# Altium footprint library PcbLib1.PcbLib: 35 footprints (part 2 of 3)
Each footprint in its own frame and in the unit in brackets; x right, y up, seen from the top. Pads: shape width x height; smd on the part's side, far side on the other; paste and mask are expansions set on the pad; w line width, h text height; cw(c..) or ccw(c..) is an arc to the next point about the centre after c.
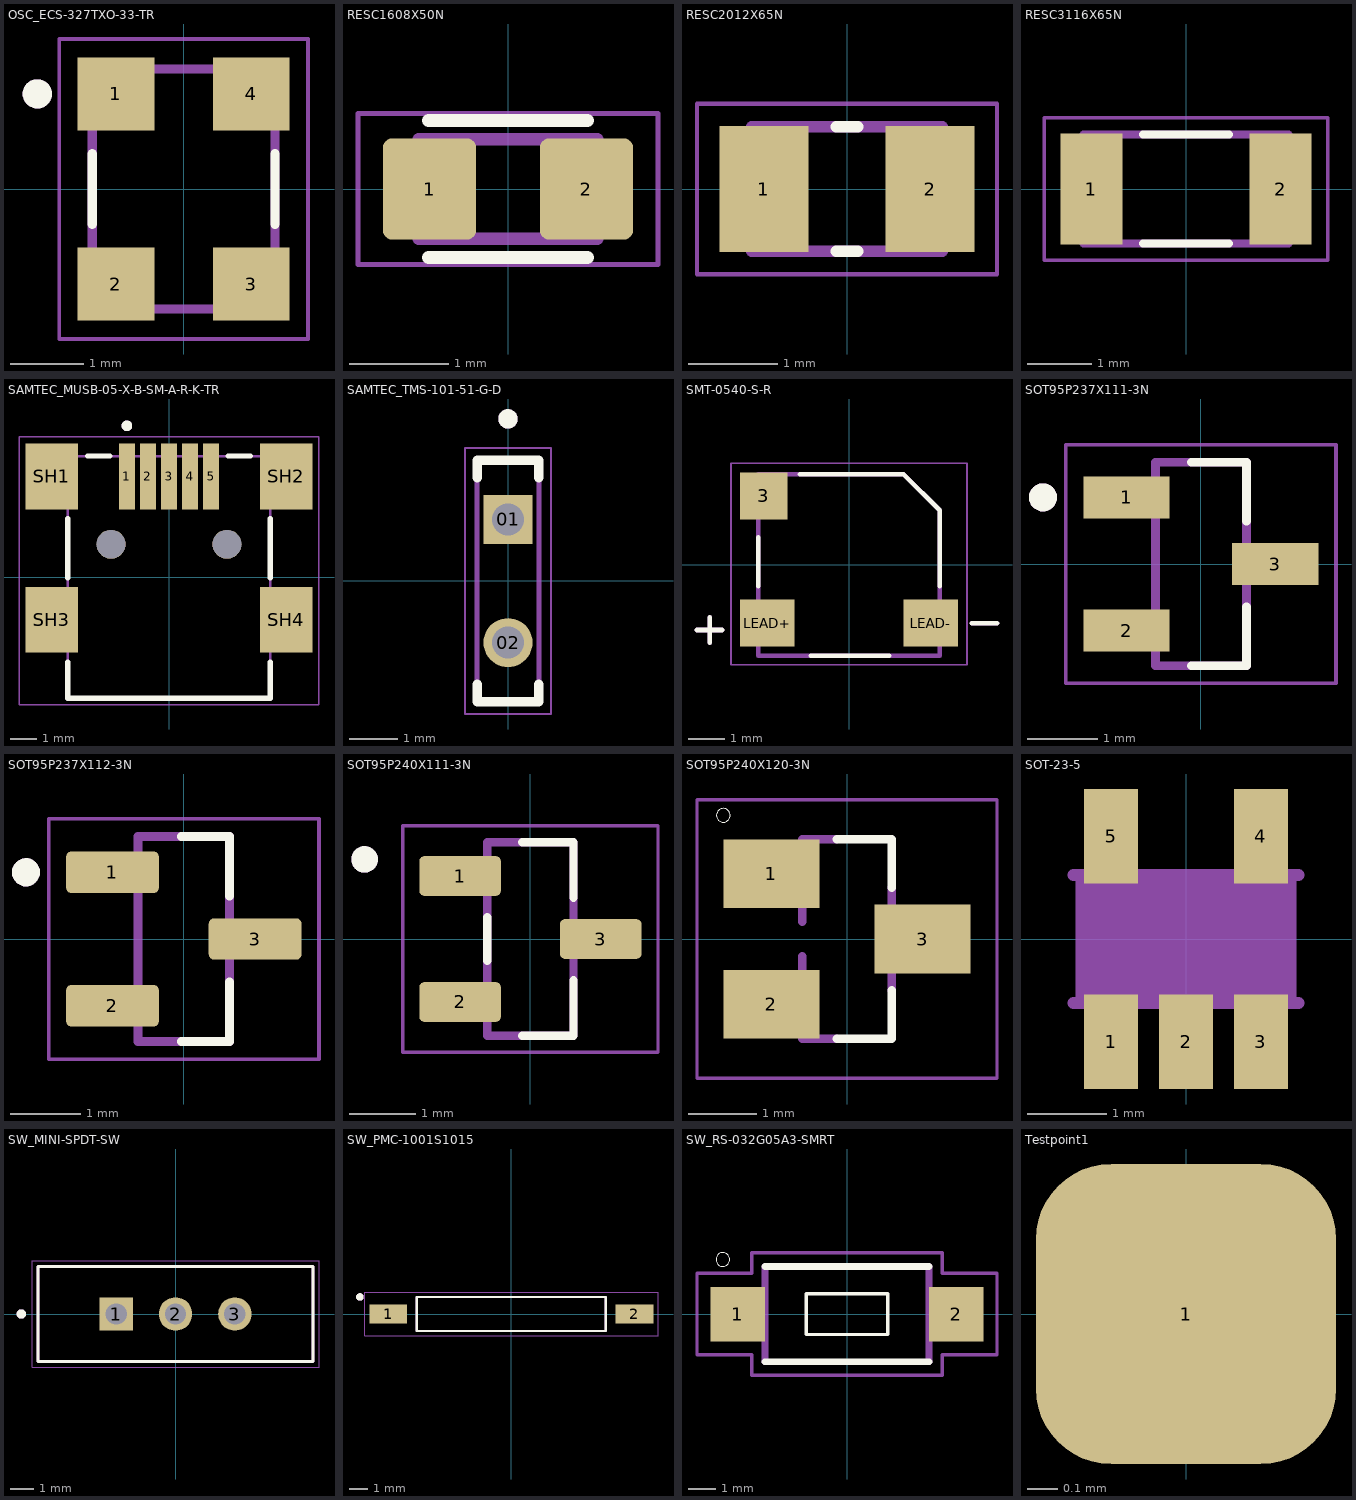
[diagram p1: the footprints below, top view; thin cyan lines are the x and y axes]

## OSC_ECS-327TXO-33-TR [mm]
height 1.4
pads (4):
  rect 1.05x1 smd: 1(-0.925,1.3) 2(-0.925,-1.3) 3(0.925,-1.3) 4(0.925,1.3)
Top Overlay:
  circle w0.2: c-2,1.3 r0.1
  lines w0.127: -1.25,-0.48 -1.25,0.48 ; 1.25,-0.48 1.25,0.48
Mechanical 13:
  circle w0.2: c-2,1.3 r0.1
  lines w0.127: -1.25,-1.64 -1.25,1.64 1.25,1.64 1.25,-1.64 -1.25,-1.64
Mechanical 15:
  lines w0.05: -1.7,-2.05 -1.7,2.05 1.7,2.05 1.7,-2.05 -1.7,-2.05
3D body "step_temp.STEP": height 1.4, standoff 0, extent -1.25,-1.64 1.25,1.64

## RESC1608X50N [mm]
pads (2):
  rrect20% 0.94x1.02 smd: 1(-0.79,0) 2(0.79,0)
Top Overlay:
  lines w0.127: -0.8,-0.69 0.8,-0.69 ; -0.8,0.69 0.8,0.69
Mechanical 13:
  lines w0.127: -0.9,-0.5 0.9,-0.5 0.9,0.5 -0.9,0.5 -0.9,-0.5
Mechanical 15:
  lines w0.05: -1.51,-0.76 1.51,-0.76 1.51,0.76 -1.51,0.76 -1.51,-0.76
3D body "4-2176243-5.stp": height 0.43, standoff -0.03, extent -0.8,-0.4 0.8,0.4

## RESC2012X65N [mm]
pads (2):
  rect 1x1.42 smd: 1(-0.935,0) 2(0.935,0)
Top Overlay:
  lines w0.127: -0.12,-0.7 0.12,-0.7 ; -0.12,0.7 0.12,0.7
Mechanical 13:
  lines w0.127: -1.07,-0.7 -1.07,0.7 1.07,0.7 1.07,-0.7 -1.07,-0.7
Mechanical 15:
  lines w0.05: -1.685,-0.96 -1.685,0.96 1.685,0.96 1.685,-0.96 -1.685,-0.96
3D body "RN73C2A499RBTG.STEP": height 0.63, standoff -0.02, extent -1,-0.625 1,0.625

## RESC3116X65N [mm]
pads (2):
  rect 0.97x1.73 smd: 1(-1.48,0) 2(1.48,0)
Top Overlay:
  lines w0.127: -0.67,-0.85 0.67,-0.85 ; -0.67,0.85 0.67,0.85
Mechanical 13:
  lines w0.127: -1.6,-0.85 -1.6,0.85 1.6,0.85 1.6,-0.85 -1.6,-0.85
Mechanical 15:
  lines w0.05: -2.215,-1.115 -2.215,1.115 2.215,1.115 2.215,-1.115 -2.215,-1.115
3D body "step_temp.STEP": height 0.65, standoff 0, extent -1.55,-0.8 1.55,0.8

## SAMTEC_MUSB-05-X-B-SM-A-R-K-TR [mm]
height 4.1
pads (11):
  rect 0.6x2.5 smd: 1(-1.6,3.83) 2(-0.8,3.83) 3(0,3.83) 4(0.8,3.83) 5(1.6,3.83)
  rect 2x2.5 smd: SH1(-4.45,3.83) SH2(4.45,3.83) SH3(-4.45,-1.62) SH4(4.45,-1.62)
  round 1.1 hole 1.1 unplated: ""(-2.2,1.25) ""(2.2,1.25)
Top Overlay:
  circle w0.2: c-1.6,5.75 r0.1
  lines w0.2: -3.85,-3.22 -3.85,-4.6 3.85,-4.6 3.85,-3.22 ; -3.85,-0.02 -3.85,2.23 ; -3.1,4.6 -2.25,4.6 ; 2.25,4.6 3.1,4.6 ; 3.85,-0.02 3.85,2.23
Mechanical 13:
  circle w0.2: c-1.6,5.75 r0.1
  lines w0.1: -3.85,-4.6 3.85,-4.6 3.85,4.6 -3.85,4.6 -3.85,-4.6
Mechanical 15:
  lines w0.05: -5.7,-4.85 5.7,-4.85 5.7,5.33 -5.7,5.33 -5.7,-4.85
3D body "step_temp.STEP": height 4.13, standoff -1, extent -5,-4.6 5,4.9

## SAMTEC_TMS-101-51-G-D [mm]
pads (2):
  rect 1.01x1.01 / inner round 1.01 / far side rect 1.01x1.01 hole 0.66: 01(0,1.27)
  round 1.01 hole 0.66: 02(0,-1.27)
Top Overlay:
  circle w0.2: c0,3.339 r0.1
  lines w0.2: -0.635,-2.125 -0.635,-2.489 0.635,-2.489 0.635,-2.125 ; -0.635,2.125 -0.635,2.489 0.635,2.489 0.635,2.125
Mechanical 13:
  circle w0.2: c0,3.339 r0.1
  lines w0.1: -0.635,-2.489 -0.635,2.489 0.635,2.489 0.635,-2.489 -0.635,-2.489
Mechanical 15:
  lines w0.05: -0.885,-2.739 0.885,-2.739 0.885,2.739 -0.885,2.739 -0.885,-2.739
3D body "TMS-101-51-G-D.stp": height 7.35, standoff -3.07, extent -0.635,-2.438 0.635,2.54

## SMT-0540-S-R [mm]
height 2.1
pads (3):
  rect 1.3x1.3 smd: 3(-2.35,1.9)
  rect 1.5x1.3 smd: LEAD+(-2.25,-1.6) LEAD-(2.25,-1.6)
Top Overlay:
  lines w0.127: -4.186,-1.791 -3.486,-1.791 ; -3.836,-2.141 -3.836,-1.441 ; -2.5,-0.585 -2.5,0.762 ; -1.35,2.5 1.5,2.5 2.5,1.5 2.5,-0.585 ; -1.057,-2.5 1.103,-2.5 ; 3.373,-1.602 4.073,-1.602
Mechanical 13:
  lines w0.127: -4.186,-1.791 -3.486,-1.791 ; -3.836,-2.141 -3.836,-1.441 ; 3.373,-1.602 4.073,-1.602 ; -2.5,-2.5 2.5,-2.5 2.5,1.5 1.5,2.5 -2.5,2.5 -2.5,-2.5
Mechanical 15:
  lines w0.05: -3.25,-2.75 -3.25,2.8 3.25,2.8 3.25,-2.75 -3.25,-2.75
3D body "SMT-0540-S-R--3DModel-STEP-461651.STEP": height 1.99, standoff -0.01, extent -2.68,-2.466 2.72,2.534

## SOT95P237X111-3N [mm]
height 1.11
pads (3):
  rect 1.23x0.6 smd: 1(-1.06,0.95) 2(-1.06,-0.95) 3(1.06,0)
Top Overlay:
  circle w0.2: c-2.25,0.95 r0.1
  lines w0.127: -0.132,-1.45 0.65,-1.45 0.65,-0.613 ; -0.132,1.45 0.65,1.45 0.65,0.613
Mechanical 13:
  circle w0.2: c-2.25,0.95 r0.1
  lines w0.127: -0.65,-1.45 -0.65,1.45 0.65,1.45 0.65,-1.45 -0.65,-1.45
Mechanical 15:
  lines w0.05: -1.925,-1.7 -1.925,1.7 1.925,1.7 1.925,-1.7 -1.925,-1.7
3D body "step_temp.STEP": height 1.2, standoff 0, extent -1.2,-1.46 1.2,1.46

## SOT95P237X112-3N [mm]
pads (3):
  rrect25% 1.32x0.59 smd: 1(-1.015,0.95) 2(-1.015,-0.95) 3(1.015,0)
Top Overlay:
  circle w0.2: c-2.246,0.95 r0.1
  lines w0.127: -0.035,-1.46 0.65,-1.46 0.65,-0.615 ; -0.035,1.46 0.65,1.46 0.65,0.615
Mechanical 13:
  circle w0.2: c-2.246,0.95 r0.1
  lines w0.127: -0.65,-1.46 -0.65,1.46 0.65,1.46 0.65,-1.46 -0.65,-1.46
Mechanical 15:
  lines w0.05: -1.925,-1.71 -1.925,1.71 1.925,1.71 1.925,-1.71 -1.925,-1.71
3D body "step_temp.STEP": height 1.12, standoff 0, extent -1.185,-1.46 1.185,1.46

## SOT95P240X111-3N [mm]
height 1.11
pads (3):
  rrect25% 1.23x0.6 smd: 1(-1.06,0.95) 2(-1.06,-0.95) 3(1.06,0)
Top Overlay:
  circle w0.2: c-2.5,1.2 r0.1
  lines w0.127: -0.65,-0.33 -0.65,0.33 ; -0.125,-1.46 0.65,-1.46 0.65,-0.62 ; -0.125,1.46 0.65,1.46 0.65,0.62
Mechanical 13:
  circle w0.2: c-2.5,1.2 r0.1
  lines w0.127: -0.65,-1.46 -0.65,1.46 0.65,1.46 0.65,-1.46 -0.65,-1.46
Mechanical 15:
  lines w0.05: -1.925,-1.71 1.925,-1.71 1.925,1.71 -1.925,1.71 -1.925,-1.71
3D body "step_temp.STEP": height 1.11, standoff 0, extent -1.2,-1.45 1.2,1.45

## SOT95P240X120-3N [mm]
pads (3):
  rect 1.4x1 smd: 1(-1.1,0.95) 2(-1.1,-0.95) 3(1.1,0)
Top Overlay:
  circle w0: c-1.8,1.8 r0.1
  lines w0.127: -0.15,-1.45 0.65,-1.45 0.65,-0.75 ; -0.15,1.45 0.65,1.45 0.65,0.75
Mechanical 13:
  region: -0.712,0.711 -1.296,0.711 -1.296,1.169 -0.712,1.169
  region: -0.711,-1.17 -1.297,-1.17 -1.297,-0.711 -0.711,-0.711
  region: 1.296,-0.228 0.711,-0.228 0.711,0.228 1.296,0.228
  lines w0.127: -0.65,-0.25 -0.65,-1.45 -0.15,-1.45 ; -0.65,0.25 -0.65,1.45 -0.15,1.45 ; 0.65,-0.75 0.65,0.75
Mechanical 15:
  lines w0.051: -2.183,-2.023 2.183,-2.023 2.183,2.023 -2.183,2.023 -2.183,-2.023
3D body "FDN340P.STEP": height 1.12, standoff 0, extent -1.382,-1.46 1.128,1.46

## SOT-23-5 [mm]
pads (5):
  rect 0.69x1.2 smd: 1(-0.95,-1.3) 2(0,-1.3) 3(0.95,-1.3) 4(0.95,1.3) 5(-0.95,1.3)
Mechanical 13:
  region: -0.7,0.85 -1.201,0.85 -1.201,1.5 -0.7,1.5
  region: 1.2,0.851 0.701,0.851 0.701,1.5 1.2,1.5
  region: 1.2,-1.502 0.701,-1.502 0.701,-0.85 1.2,-0.85
  region: 0.25,-1.502 -0.25,-1.502 -0.25,-0.85 0.25,-0.85
  region: -0.7,-1.5 -1.2,-1.5 -1.2,-0.85 -0.7,-0.85
  lines w0.152: -1.422,-0.81 1.422,-0.81 ; -1.422,0.81 1.422,0.81
Mechanical 15:
  region: 1.397,-0.762 -1.397,-0.762 -1.397,0.762 1.397,0.762
3D body "MIC5205-3.3YM5-TR.STEP": height 1.45, standoff 0, extent -1.45,-1.35 1.45,1.35

## SW_MINI-SPDT-SW [mm]
pads (3):
  rect 1.408x1.408 hole 0.9: 1(-2.5,0)
  round 1.408 hole 0.9: 2(0,0) 3(2.5,0)
Top Overlay:
  circle w0.2: c-6.5,0 r0.1
  lines w0.127: -5.8,-2 -5.8,2 5.8,2 5.8,-2 -5.8,-2
Mechanical 13:
  circle w0.2: c-6.5,0 r0.1
  lines w0.127: -5.8,-2 -5.8,2 5.8,2 5.8,-2 -5.8,-2
Mechanical 15:
  lines w0.05: -6.05,-2.25 -6.05,2.25 6.05,2.25 6.05,-2.25 -6.05,-2.25
3D body "MINI-SPDT-SW--3DModel-STEP-56544.STEP": height 7.38, standoff -4.72, extent -5.8,-2 5.8,2

## SW_PMC-1001S1015 [mm]
pads (2):
  rect 2x1 smd: 1(-6.5,0) 2(6.5,0)
Top Overlay:
  circle w0.2: c-8,0.9 r0.1
  lines w0.127: -5,-0.9 5,-0.9 5,0.9 -5,0.9 -5,-0.9
Mechanical 1:
  lines w0: -5,-0.9 -5,0.9 5,0.9 5,-0.9 -5,-0.9
Mechanical 13:
  circle w0.2: c-8,0.9 r0.1
  lines w0.127: -5,-0.9 -5,0.9 5,0.9 5,-0.9 -5,-0.9
Mechanical 15:
  lines w0.05: -7.75,-1.15 -7.75,1.15 7.75,1.15 7.75,-1.15 -7.75,-1.15
3D body "PMC-1001S1015--3DModel-STEP-56544.STEP": height 0.9, standoff -0.9, extent -6.5,-0.912 6.5,0.874

## SW_RS-032G05A3-SMRT [mm]
pads (2):
  rect 2x2 smd: 1(-4,0) 2(4,0)
Top Overlay:
  circle w0: c-4.55,2 r0.254
  lines w0.127: -1.5,-0.75 1.5,-0.75 1.5,0.75 -1.5,0.75 -1.5,-0.75
  lines w0.254: -3,-1.75 3,-1.75 ; -3,1.75 3,1.75
Mechanical 13:
  lines w0.254: -3,-1.75 -3,1.75 ; 3,-1.75 3,1.75
Mechanical 15:
  lines w0.127: -5.5,-1.5 -3.5,-1.5 -3.5,-2.25 3.5,-2.25 3.5,-1.5 5.5,-1.5 5.5,1.5 3.5,1.5 3.5,2.25 -3.5,2.25 -3.5,1.5 -5.5,1.5 -5.5,-1.5
3D body "RS-032G05A3-SM RT--3DModel-STEP-56544.STEP": height 2.3, standoff -2, extent -4.127,-1.75 3.873,1.75

## Testpoint1 [mm]
pads (1):
  rrect50% 1x1 smd: 1(0,0)